# Altium footprint library MOLEX SD-734120110.PCBLIB: 1 footprints
Each footprint in its own frame and in the unit in brackets; x right, y up, seen from the top. Pads: shape width x height; smd on the part's side, far side on the other; paste and mask are expansions set on the pad; w line width, h text height; cw(c..) or ccw(c..) is an arc to the next point about the centre after c.
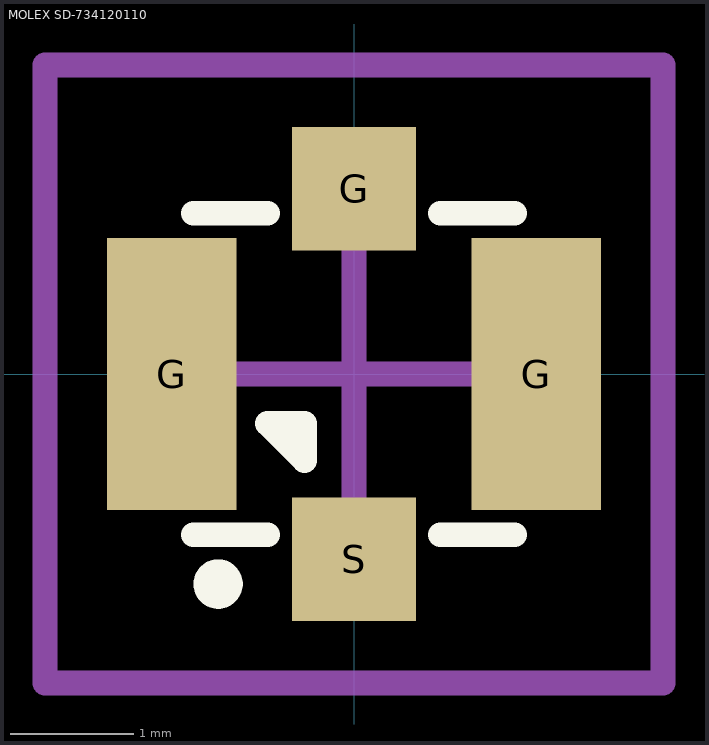
[diagram p0: the footprint, top view; thin cyan lines are the x and y axes]

## MOLEX SD-734120110 [mm]
height 1.3
pads (4):
  rect 1.05x2.2 smd: G(-1.475,0) G(1.475,0)
  rect 1x1 smd: G(0,1.5) S(0,-1.5)
Top Overlay:
  circle w0.2: c-1.1,-1.7 r0.1
  lines w0.2: -1.3,-1.3 -0.7,-1.3 ; -1.3,1.3 -0.7,1.3 ; 0.7,-1.3 1.3,-1.3 ; 0.7,1.3 1.3,1.3 ; -0.7,-0.4 -0.4,-0.7 -0.4,-0.4 -0.7,-0.4
Mechanical 15:
  lines w0.2: -1,0 1,0 ; 0,-1 0,1 ; -2.5,-2.5 2.5,-2.5 2.5,2.5 -2.5,2.5 -2.5,-2.5
3D body "Molex 734120110.STEP": height 1.3, standoff 0, extent -1.5,-1.54 1.5,1.54